# EAGLE library part CY8C24123A (library CypressPSoC_0.30)
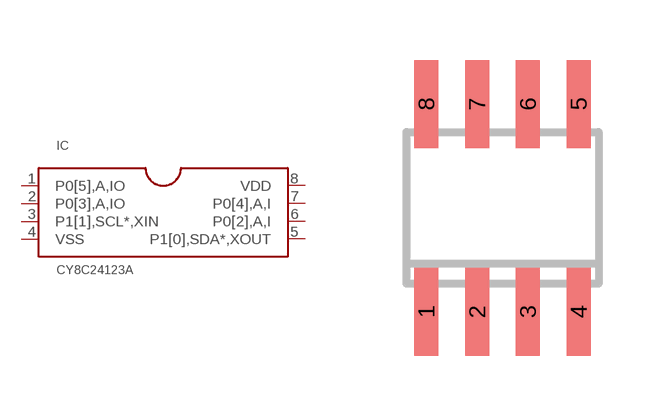
[diagram p5: symbol with the pads of SO08; footprint SO08]

Designator prefix IC

## CY8C24123A_SO8  [SO08]
1  P0[5],A,IO
2  P0[3],A,IO
3  P1[1],SCL*,XIN
4  VSS
5  P1[0],SDA*,XOUT
6  P0[2],A,I
7  P0[4],A,I
8  VDD

## Footprint SO08 (pad centres in mm)
SMALL OUTLINE INTEGRATED CIRCUIT body 3.9 mm/JEDEC MS-012AA
smd 0.6 x 2.2: 1 -1.905,-2.6; 2 -0.635,-2.6; 3 0.635,-2.6; 4 1.905,-2.6; 5 1.905,2.6; 6 0.635,2.6; 7 -0.635,2.6; 8 -1.905,2.6